# EAGLE library part 87832-12 (library con-molex_sgq)
Milli-Grid Header 2.00mm (.079") Pitch
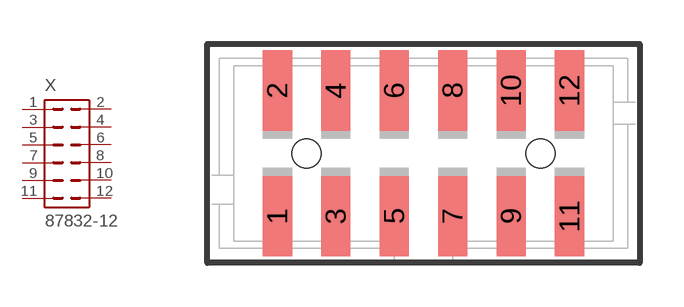
[diagram p53: symbol with the pads of 87832-12; footprint 87832-12]

Designator prefix X

## 87832-12 (MF: MOLEX; OC_FARNELL: 1756948; OC_NEWARK: unknown)  [87832-12]
1  1  pas
2  2  pas
3  3  pas
4  4  pas
5  5  pas
6  6  pas
7  7  pas
8  8  pas
9  9  pas
10  10  pas
11  11  pas
12  12  pas

## Footprint 87832-12 (pad centres in mm)
Milli-Grid™ Header, Surface Mount, Vertical, Shrouded, Lead-Free, 12 Circuits, 0.76µm Gold (Au) Plating, without Locking Window, with Centre Polarization Slot, PCB Locator, Tube Datasheet <http://www.molex.com/pdm_docs/sd/878321221_sd.pdf>
smd 1 x 2.75: 1 -5,-2.15; 2 -5,2.15; 3 -3,-2.15; 4 -3,2.15; 5 -1,-2.15; 6 -1,2.15; 7 1,-2.15; 8 1,2.15; 9 3,-2.15; 10 3,2.15; 11 5,-2.15; 12 5,2.15
hole 1 at -4,0
hole 1 at 4,0